# Altium footprint library TDSON.PcbLib: 1 footprints
Each footprint in its own frame and in the unit in brackets; x right, y up, seen from the top. Pads: shape width x height; smd on the part's side, far side on the other; paste and mask are expansions set on the pad; w line width, h text height; cw(c..) or ccw(c..) is an arc to the next point about the centre after c.
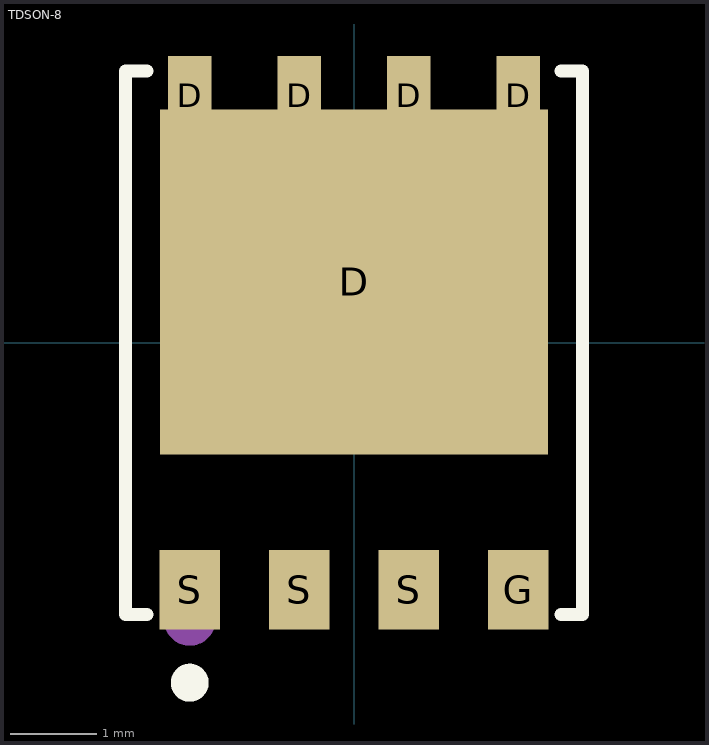
[diagram p0: the footprint, top view; thin cyan lines are the x and y axes]

## TDSON-8 [mm]
pads (9):
  rect 0.5x0.925 smd: D(-1.905,2.865) D(-0.635,2.865) D(0.635,2.865) D(1.905,2.865)
  rect 4.5x4 smd: D(0,0.705)
  rect 0.7x0.925 smd: G(1.905,-2.865) S(-1.905,-2.865) S(-0.635,-2.865) S(0.635,-2.865)
Top Overlay:
  circle w0.22: c-1.905,-3.942 r0.11
  lines w0.152: -2.404,-3.151 -2.651,-3.151 -2.651,3.151 -2.404,3.151 ; 2.404,-3.151 2.651,-3.151 2.651,3.151 2.404,3.151
Top Paste:
  region: -2.157,3.328 -1.655,3.328 -1.655,2.829 -2.156,2.829 -2.156,2.831
  region: -0.887,3.328 -0.385,3.328 -0.385,2.829 -0.886,2.829 -0.886,2.831
  region: 0.383,3.328 0.885,3.328 0.885,2.829 0.384,2.829 0.384,2.831
  region: 1.653,3.328 2.155,3.328 2.155,2.829 1.654,2.829 1.654,2.831
  region: -2.25,2.5 2.25,2.5 2.25,-1.3 -2.25,-1.3
  region: -2.257,-2.403 -1.556,-2.403 -1.556,-3.325 -2.252,-3.325 -2.252,-3.323
  region: -0.987,-2.403 -0.286,-2.403 -0.286,-3.325 -0.982,-3.325 -0.982,-3.323
  region: 0.283,-2.403 0.984,-2.403 0.984,-3.325 0.288,-3.325 0.288,-3.323
  region: 1.553,-2.403 2.254,-2.403 2.254,-3.325 1.558,-3.325 1.558,-3.323
Mechanical 15:
  circle w0.3: c-1.905,-3.212 r0.15
3D body "TDSON-8.x_t": height 1.1, standoff 0, extent -2.575,-3.075 2.575,3.075